# Altium integrated library TI_Logic_Little_Logic.IntLib: 1164 symbols (part 15 of 35)
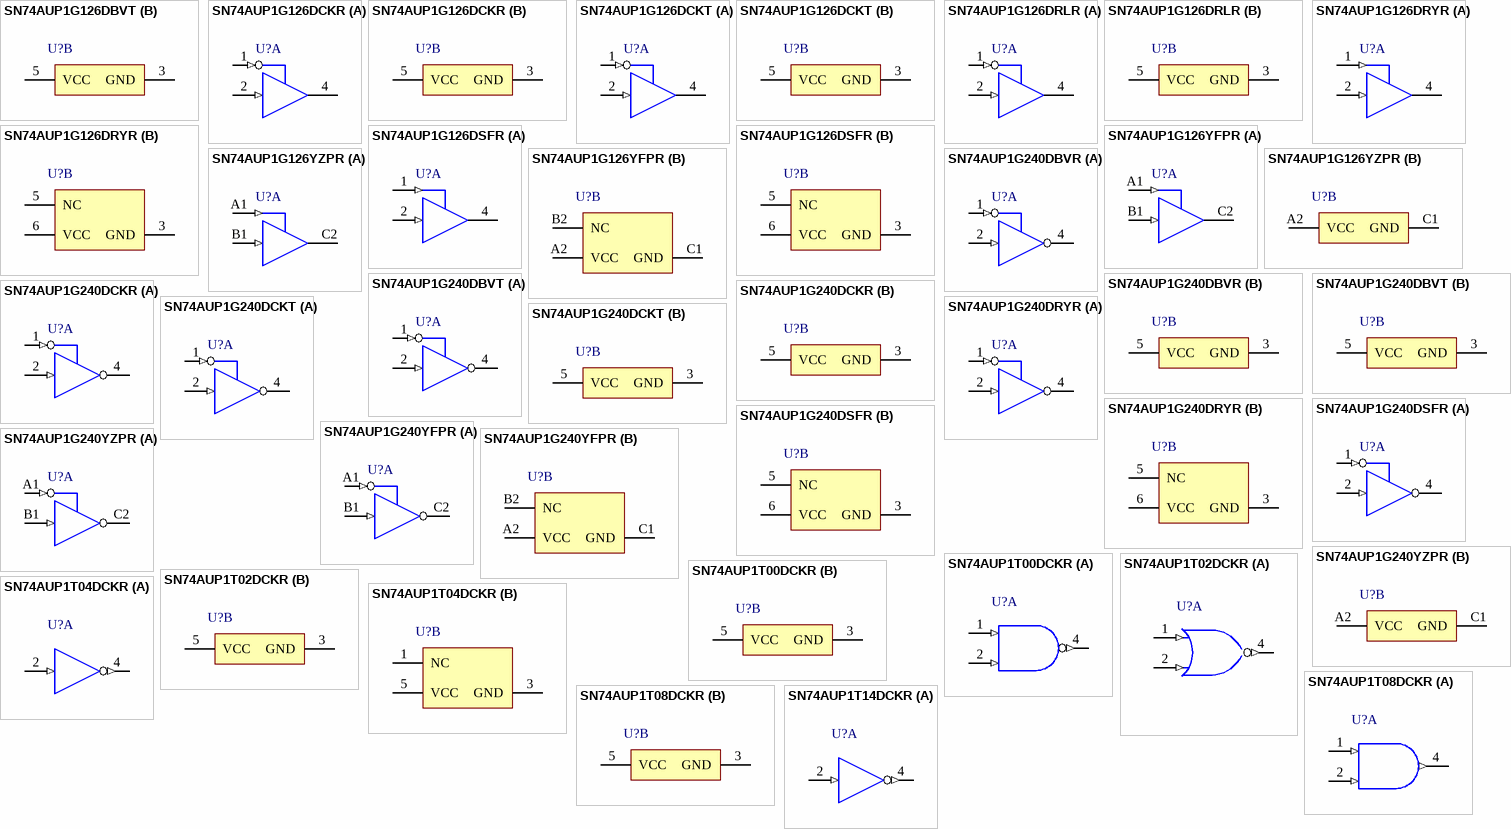
[diagram p74: symbols SN74AUP1G126DBVT to SN74AUP1T14DCKR]

## SN74AUP1T08DCKR
designator U?
Low Power, 1.8/2.5/3.3-V Input, 3.3-V CMOS Output, 2-Input Positive-AND Gate, DCK0005A, LARGE T&R; Generic Part Number: SN74AUP1T08; Manufacturer: Texas Instruments; PartNumber: SN74AUP1T08DCKR; VCC(Min)(V): 0.8; VCC(Max)(V): 3.6; Logic: True; ICC @ Nom Voltage(Max)(mA): 0.0009; Bits(#): 1; F @ Nom Voltage(Max)(Mhz): 190; Rating: Catalog; Technology Family: AUP1T; Voltage(Nom)(V): 1.8,2.5,3.3; Schmitt Trigger: No; Output Drive (IOL/IOH)(Max)(mA): 4/-4; Sub-Family: Single Supply Translator; tpd @ Nom Voltage(Max)(ns): 9.8,8.5,7.8; DatasheetVersion: SCES801; PackageReference: DCK0005A; Supplier 1: Mouser; Supplier Part Number 1: 595-SN74AUP1T08DCKR; Supplier 2: Digi-Key; Supplier Part Number 2: 296-27391-2-ND; Supplier 3: Digi-Key; Supplier Part Number 3: 296-27391-1-ND; Supplier 4: Digi-Key; Supplier Part Number 4: 296-27391-6-ND; Output Type: CMOS; Input Type: CMOS; Operating Temperature Range(C): -40 to 85; 3-State Output: No; ComponentLink1Description: Manufacturer URL; ComponentLink1URL: http://www.ti.com/; ComponentLink2Description: Datasheet; ComponentLink2URL: http://www.ti.com/lit/ds/symlink/sn74aup1t08.pdf
footprint DCK0005A_N (SOT23, 5-Leads, Body 2.15x1.4mm, Pitch 0.65mm, IPC Medium Density)
footprint DCK0005A_M (SOT23, 5-Leads, Body 2.15x1.4mm, Pitch 0.65mm, IPC Low Density)
footprint DCK0005A_L (SOT23, 5-Leads, Body 2.15x1.4mm, Pitch 0.65mm, IPC High Density)
part A pins: 1 A (in) "Input A", 2 B (in) "Input B", 4 Y (out) "Output Y"
part B pins: 3 GND (power) "Ground Pin", 5 VCC (power) "Power Pin"

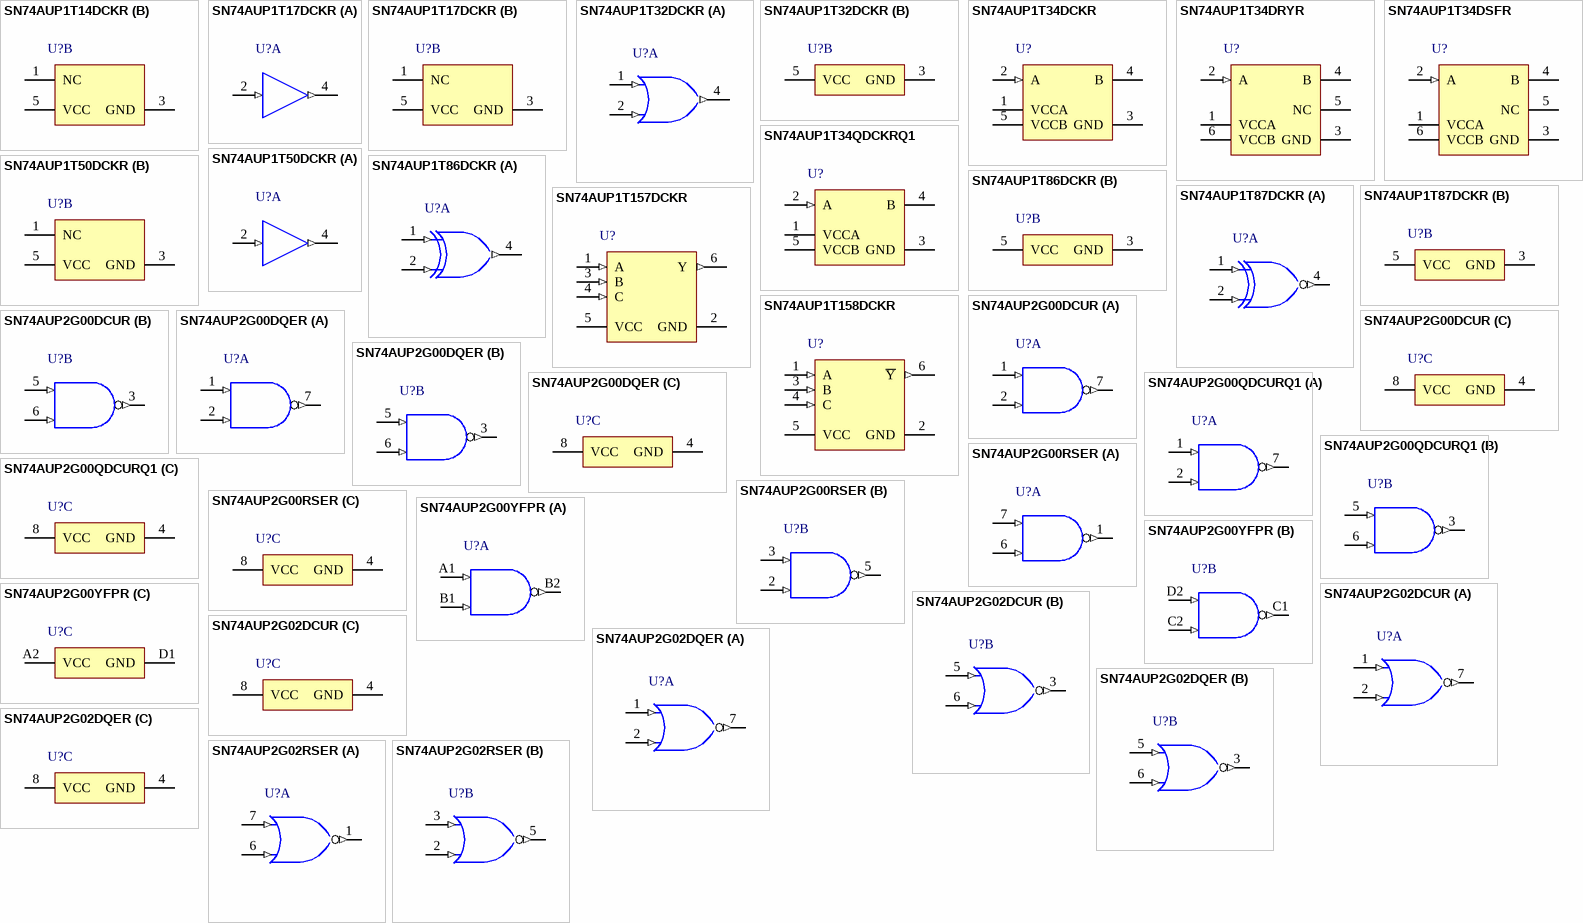
[diagram p23: symbols SN74AUP1T14DCKR to SN74AUP2G02RSER]

## SN74AUP1T14DCKR
designator U?
Low Power, 1.8/2.5/3.3-V In, 3.3-V CMOS Out Single Schmitt-Trigger Inverter Gate, DCK0005A, LARGE T&R; Generic Part Number: SN74AUP1T14; Manufacturer: Texas Instruments; PartNumber: SN74AUP1T14DCKR; VCC(Min)(V): 0.8; VCC(Max)(V): 3.6; Logic: Inverting; ICC @ Nom Voltage(Max)(mA): 0.0009; Bits(#): 1; F @ Nom Voltage(Max)(Mhz): 190; Rating: Catalog; Technology Family: AUP1T; Voltage(Nom)(V): 1.8,2.5,3.3; Schmitt Trigger: Yes; Output Drive (IOL/IOH)(Max)(mA): 4/-4; Sub-Family: Single Supply Translator; 3-State Output: No; tpd @ Nom Voltage(Max)(ns): 9.8,8.5,7.8; DatasheetVersion: SCES802; PackageReference: DCK0005A; Supplier 1: Mouser; Supplier Part Number 1: 595-SN74AUP1T14DCKR; Supplier 2: Digi-Key; Supplier Part Number 2: 296-27392-2-ND; Supplier 3: Digi-Key; Supplier Part Number 3: 296-27392-1-ND; Supplier 4: Digi-Key; Supplier Part Number 4: 296-27392-6-ND; Output Type: CMOS; Input Type: CMOS; Operating Temperature Range(C): -40 to 85; ComponentLink1Description: Manufacturer URL; ComponentLink1URL: http://www.ti.com/; ComponentLink2Description: Datasheet; ComponentLink2URL: http://www.ti.com/lit/ds/symlink/sn74aup1t14.pdf
footprint DCK0005A_N (SOT23, 5-Leads, Body 2.15x1.4mm, Pitch 0.65mm, IPC Medium Density)
footprint DCK0005A_M (SOT23, 5-Leads, Body 2.15x1.4mm, Pitch 0.65mm, IPC Low Density)
footprint DCK0005A_L (SOT23, 5-Leads, Body 2.15x1.4mm, Pitch 0.65mm, IPC High Density)
part A pins: 2 A (in) "Input A", 4 Y (out) "Output Y"
part B pins: 1 NC "Ground", 3 GND (power) "Ground Pin", 5 VCC (power) "Power Pin"

## SN74AUP1T17DCKR
designator U?
Low Power, 1.8/2.5/3.3-V In, 3.3-V CMOS Out, Single Schmitt-Trigger Buffer Gate, DCK0005A, LARGE T&R; Generic Part Number: SN74AUP1T17; Manufacturer: Texas Instruments; PartNumber: SN74AUP1T17DCKR; VCC(Min)(V): 0.8; VCC(Max)(V): 3.6; Logic: True; ICC @ Nom Voltage(Max)(mA): 0.0009; Bits(#): 1; F @ Nom Voltage(Max)(Mhz): 190; Rating: Catalog; Technology Family: AUP1T; Voltage(Nom)(V): 1.8,2.5,3.3; Schmitt Trigger: Yes; Output Drive (IOL/IOH)(Max)(mA): 4/-4; Sub-Family: Single Supply Translator; 3-State Output: No; tpd @ Nom Voltage(Max)(ns): 9.8,8.5,7.8; DatasheetVersion: SCES803; PackageReference: DCK0005A; Supplier 1: Mouser; Supplier Part Number 1: 595-SN74AUP1T17DCKR; Supplier 2: Digi-Key; Supplier Part Number 2: 296-27395-2-ND; Supplier 3: Digi-Key; Supplier Part Number 3: 296-27395-1-ND; Supplier 4: Digi-Key; Supplier Part Number 4: 296-27395-6-ND; Output Type: CMOS; Input Type: CMOS; Operating Temperature Range(C): -40 to 85; ComponentLink1Description: Manufacturer URL; ComponentLink1URL: http://www.ti.com/; ComponentLink2Description: Datasheet; ComponentLink2URL: http://www.ti.com/lit/ds/symlink/sn74aup1t17.pdf
footprint DCK0005A_N (SOT23, 5-Leads, Body 2.15x1.4mm, Pitch 0.65mm, IPC Medium Density)
footprint DCK0005A_M (SOT23, 5-Leads, Body 2.15x1.4mm, Pitch 0.65mm, IPC Low Density)
footprint DCK0005A_L (SOT23, 5-Leads, Body 2.15x1.4mm, Pitch 0.65mm, IPC High Density)
part A pins: 2 A (in) "Input", 4 Y (out) "Output"
part B pins: 1 NC "Ground", 3 GND (power) "Ground Pin", 5 VCC (power) "Power Pin"

## SN74AUP1T32DCKR
designator U?
Low Power, 1.8/2.5/3.3-V Input, 3.3-V CMOS Output, 2-Input Positive-OR Gate, DCK0005A, LARGE T&R; Generic Part Number: SN74AUP1T32; Manufacturer: Texas Instruments; PartNumber: SN74AUP1T32DCKR; VCC(Min)(V): 0.8; VCC(Max)(V): 3.6; Logic: True; ICC @ Nom Voltage(Max)(mA): 0.0009; Bits(#): 1; F @ Nom Voltage(Max)(Mhz): 190; Rating: Catalog; Technology Family: AUP1T; Voltage(Nom)(V): 1.8,2.5,3.3; Schmitt Trigger: No; Output Drive (IOL/IOH)(Max)(mA): 4/-4; Sub-Family: Single Supply Translator; tpd @ Nom Voltage(Max)(ns): 9.8,8.5,7.8; DatasheetVersion: SCES804; PackageReference: DCK0005A; Supplier 1: Mouser; Supplier Part Number 1: 595-SN74AUP1T32DCKR; Supplier 2: Digi-Key; Supplier Part Number 2: 296-27396-2-ND; Supplier 3: Digi-Key; Supplier Part Number 3: 296-27396-1-ND; Supplier 4: Digi-Key; Supplier Part Number 4: 296-27396-6-ND; Output Type: CMOS; Input Type: CMOS; Operating Temperature Range(C): -40 to 85; 3-State Output: No; ComponentLink1Description: Manufacturer URL; ComponentLink1URL: http://www.ti.com/; ComponentLink2Description: Datasheet; ComponentLink2URL: http://www.ti.com/lit/ds/symlink/sn74aup1t32.pdf
footprint DCK0005A_N (SOT23, 5-Leads, Body 2.15x1.4mm, Pitch 0.65mm, IPC Medium Density)
footprint DCK0005A_M (SOT23, 5-Leads, Body 2.15x1.4mm, Pitch 0.65mm, IPC Low Density)
footprint DCK0005A_L (SOT23, 5-Leads, Body 2.15x1.4mm, Pitch 0.65mm, IPC High Density)
part A pins: 1 A (in) "Input A", 2 B (in) "Input B", 4 Y (out) "Output Y"
part B pins: 3 GND (power) "Ground Pin", 5 VCC (power) "Power Pin"

## SN74AUP1T34DCKR
designator U?
1-Bit Unidirectional Voltage-Level Translator, DCK0005A, LARGE T&R; Generic Part Number: SN74AUP1T34; Manufacturer: Texas Instruments; PartNumber: SN74AUP1T34DCKR; VCC(Min)(V): 0.8; VCC(Max)(V): 3.6; Output Type: CMOS; Logic: True; ICC @ Nom Voltage(Max)(mA): 0.0009; Bits(#): 1; F @ Nom Voltage(Max)(Mhz): 190; Rating: Catalog; Technology Family: AUP1T; Voltage(Nom)(V): 1.8,2.5,3.3; Schmitt Trigger: No; Output Drive (IOL/IOH)(Max)(mA): 4/-4; Sub-Family: Dual Supply Translator; tpd @ Nom Voltage(Max)(ns): 5.48,4.72,4.28; DatasheetVersion: SCES841C; PackageReference: DCK0005A; Supplier 1: Mouser; Supplier Part Number 1: 595-SN74AUP1T34DCKR; Supplier 2: Digi-Key; Supplier Part Number 2: 296-34900-2-ND; Supplier 3: Digi-Key; Supplier Part Number 3: 296-34900-1-ND; Supplier 4: Digi-Key; Supplier Part Number 4: 296-34900-6-ND; Input Type: CMOS; Operating Temperature Range(C): -40 to 85; 3-State Output: No; ComponentLink1Description: Manufacturer URL; ComponentLink1URL: http://www.ti.com/; ComponentLink2Description: Datasheet; ComponentLink2URL: http://www.ti.com/lit/ds/symlink/sn74aup1t34.pdf
footprint DCK0005A_N (SOT23, 5-Leads, Body 2.15x1.4mm, Pitch 0.65mm, IPC Medium Density)
footprint DCK0005A_M (SOT23, 5-Leads, Body 2.15x1.4mm, Pitch 0.65mm, IPC Low Density)
footprint DCK0005A_L (SOT23, 5-Leads, Body 2.15x1.4mm, Pitch 0.65mm, IPC High Density)
pins: 1 VCCA (power) "Input Port DC Power Supply", 2 A (in) "Input Port", 3 GND (power) "Ground", 4 B (hiz) "Output Port", 5 VCCB (power) "Output Port DC Power Supply"

## SN74AUP1T34DRYR
designator U?
1-Bit Unidirectional Voltage-Level Translator, DRY0006A, LARGE T&R; Generic Part Number: SN74AUP1T34; Manufacturer: Texas Instruments; PartNumber: SN74AUP1T34DRYR; VCC(Min)(V): 0.8; VCC(Max)(V): 3.6; Output Type: CMOS; Logic: True; ICC @ Nom Voltage(Max)(mA): 0.0009; Bits(#): 1; F @ Nom Voltage(Max)(Mhz): 190; Rating: Catalog; Technology Family: AUP1T; Voltage(Nom)(V): 1.8,2.5,3.3; Schmitt Trigger: No; Output Drive (IOL/IOH)(Max)(mA): 4/-4; Sub-Family: Dual Supply Translator; tpd @ Nom Voltage(Max)(ns): 5.48,4.72,4.28; DatasheetVersion: SCES841C; PackageReference: DRY0006A; Supplier 1: Mouser; Supplier Part Number 1: 595-SN74AUP1T34DRYR; Supplier 2: Digi-Key; Supplier Part Number 2: 296-36718-2-ND; Supplier 3: Digi-Key; Supplier Part Number 3: 296-36718-1-ND; Supplier 4: Digi-Key; Supplier Part Number 4: 296-36718-6-ND; Input Type: CMOS; Operating Temperature Range(C): -40 to 85; 3-State Output: No; ComponentLink1Description: Manufacturer URL; ComponentLink1URL: http://www.ti.com/; ComponentLink2Description: Datasheet; ComponentLink2URL: http://www.ti.com/lit/ds/symlink/sn74aup1t34.pdf
footprint DRY0006A_V (SON, 6-Leads, Body 1.45x1mm, Pitch 0.5mm)
pins: 1 VCCA (power) "Input Port DC Power Supply", 2 A (in) "Input Port", 3 GND (power) "Ground", 4 B (hiz) "Output Port", 5 NC, 6 VCCB (power) "Output Port DC Power Supply"

## SN74AUP1T34DSFR
designator U?
1-Bit Unidirectional Voltage-Level Translator, DSF0006A, LARGE T&R; Generic Part Number: SN74AUP1T34; Manufacturer: Texas Instruments; PartNumber: SN74AUP1T34DSFR; VCC(Min)(V): 0.8; VCC(Max)(V): 3.6; Output Type: CMOS; Logic: True; ICC @ Nom Voltage(Max)(mA): 0.0009; Bits(#): 1; F @ Nom Voltage(Max)(Mhz): 190; Rating: Catalog; Technology Family: AUP1T; Voltage(Nom)(V): 1.8,2.5,3.3; Schmitt Trigger: No; Output Drive (IOL/IOH)(Max)(mA): 4/-4; Sub-Family: Dual Supply Translator; tpd @ Nom Voltage(Max)(ns): 5.48,4.72,4.28; DatasheetVersion: SCES841C; PackageReference: DSF0006A; Supplier 1: Mouser; Supplier Part Number 1: 595-SN74AUP1T34DSFR; Supplier 2: Digi-Key; Supplier Part Number 2: 296-36719-2-ND; Supplier 3: Digi-Key; Supplier Part Number 3: 296-36719-1-ND; Supplier 4: Digi-Key; Supplier Part Number 4: 296-36719-6-ND; Input Type: CMOS; Operating Temperature Range(C): -40 to 85; 3-State Output: No; ComponentLink1Description: Manufacturer URL; ComponentLink1URL: http://www.ti.com/; ComponentLink2Description: Datasheet; ComponentLink2URL: http://www.ti.com/lit/ds/symlink/sn74aup1t34.pdf
footprint DSF0006A_V (SON, 6-Leads, Body 1x1mm, Pitch 0.35mm, TI Recommend)
pins: 1 VCCA (power) "Input Port DC Power Supply", 2 A (in) "Input Port", 3 GND (power) "Ground", 4 B (hiz) "Output Port", 5 NC, 6 VCCB (power) "Output Port DC Power Supply"

## SN74AUP1T34QDCKRQ1
designator U?
1-Bit Unidirectional Voltage-Level Translator, SN74AUP1T34-Q1, DCK0005A, LARGE T&R; Manufacturer: Texas Instruments; PartNumber: SN74AUP1T34QDCKRQ1; VCC(Min)(V): 0.8; VCC(Max)(V): 3.6; Output Type: CMOS; Logic: True; ICC @ Nom Voltage(Max)(mA): 0.0009; Bits(#): 1; F @ Nom Voltage(Max)(Mhz): 190; Rating: Automotive; Technology Family: AUP1T; Voltage(Nom)(V): 1.8,2.5,3.3; Schmitt Trigger: No; Output Drive (IOL/IOH)(Max)(mA): 4/-4; Sub-Family: Dual Supply Translator; tpd @ Nom Voltage(Max)(ns): 6.92,4.95,4.35; DatasheetVersion: SCES852; PackageReference: DCK0005A; Supplier 1: Mouser; Supplier Part Number 1: 595-74AUP1T34QDCKRQ1; Supplier 2: Digi-Key; Supplier Part Number 2: 296-40540-2-ND; Supplier 3: Digi-Key; Supplier Part Number 3: 296-40540-1-ND; Supplier 4: Digi-Key; Supplier Part Number 4: 296-40540-6-ND; Generic Part Number: SN74AUP1T34-Q1; Input Type: CMOS; Operating Temperature Range(C): -40 to 125; 3-State Output: No; ComponentLink1Description: Manufacturer URL; ComponentLink1URL: http://www.ti.com/; ComponentLink2Description: Datasheet; ComponentLink2URL: http://www.ti.com/lit/ds/symlink/sn74aup1t34-q1.pdf
footprint DCK0005A_N (SOT23, 5-Leads, Body 2.15x1.4mm, Pitch 0.65mm, IPC Medium Density)
footprint DCK0005A_M (SOT23, 5-Leads, Body 2.15x1.4mm, Pitch 0.65mm, IPC Low Density)
footprint DCK0005A_L (SOT23, 5-Leads, Body 2.15x1.4mm, Pitch 0.65mm, IPC High Density)
pins: 1 VCCA (power) "Input Port DC Power Supply", 2 A (in) "Input Port", 3 GND (power) "Ground", 4 B (hiz) "Output Port", 5 VCCB (power) "Output Port DC Power Supply"

## SN74AUP1T50DCKR
designator U?
Low Power, 1.8/2.5/3.3-V In, 3.3-V CMOS Out, SN74AUP1T50, DCK0005A, LARGE T&R; Manufacturer: Texas Instruments; PartNumber: SN74AUP1T50DCKR; VCC(Min)(V): 0.8; VCC(Max)(V): 3.6; Logic: True; ICC @ Nom Voltage(Max)(mA): 0.0009; Bits(#): 1; F @ Nom Voltage(Max)(Mhz): 190; Rating: Catalog; Technology Family: AUP1T; Voltage(Nom)(V): 1.8,2.5,3.3; Schmitt Trigger: No; Output Drive (IOL/IOH)(Max)(mA): 4/-4; Sub-Family: Single Supply Translator; tpd @ Nom Voltage(Max)(ns): 9.8,8.5,7.8; DatasheetVersion: SCES844A; PackageReference: DCK0005A; Supplier 1: Mouser; Supplier Part Number 1: 595-SN74AUP1T50DCKR; Supplier 2: Digi-Key; Supplier Part Number 2: 296-40541-2-ND; Supplier 3: Digi-Key; Supplier Part Number 3: 296-40541-1-ND; Supplier 4: Digi-Key; Supplier Part Number 4: 296-40541-6-ND; Generic Part Number: SN74AUP1T50; Output Type: CMOS; Input Type: CMOS; Operating Temperature Range(C): -40 to 85; 3-State Output: No; ComponentLink1Description: Manufacturer URL; ComponentLink1URL: http://www.ti.com/; ComponentLink2Description: Datasheet; ComponentLink2URL: http://www.ti.com/lit/ds/symlink/sn74aup1t50.pdf
footprint DCK0005A_N (SOT23, 5-Leads, Body 2.15x1.4mm, Pitch 0.65mm, IPC Medium Density)
footprint DCK0005A_M (SOT23, 5-Leads, Body 2.15x1.4mm, Pitch 0.65mm, IPC Low Density)
footprint DCK0005A_L (SOT23, 5-Leads, Body 2.15x1.4mm, Pitch 0.65mm, IPC High Density)
part A pins: 2 A (in) "Input", 4 Y (out) "Output"
part B pins: 1 NC "Ground", 3 GND (power) "Ground Pin", 5 VCC (power) "Power Pin"

## SN74AUP1T86DCKR
designator U?
Low Power, 1.8/2.5/3.3-V Input, 3.3-V CMOS Output, 2-Input Exclusive-OR Gate, DCK0005A, LARGE T&R; Generic Part Number: SN74AUP1T86; Manufacturer: Texas Instruments; PartNumber: SN74AUP1T86DCKR; VCC(Min)(V): 0.8; VCC(Max)(V): 3.6; Logic: True; ICC @ Nom Voltage(Max)(mA): 0.0009; Bits(#): 1; F @ Nom Voltage(Max)(Mhz): 190; Rating: Catalog; Technology Family: AUP1T; Voltage(Nom)(V): 1.8,2.5,3.3; Schmitt Trigger: No; Output Drive (IOL/IOH)(Max)(mA): 4/-4; Sub-Family: Single Supply Translator; tpd @ Nom Voltage(Max)(ns): 9.8,8.5,7.8; DatasheetVersion: SCES805; PackageReference: DCK0005A; Supplier 1: Mouser; Supplier Part Number 1: 595-SN74AUP1T86DCKR; Supplier 2: Digi-Key; Supplier Part Number 2: 296-27397-2-ND; Supplier 3: Digi-Key; Supplier Part Number 3: 296-27397-1-ND; Supplier 4: Digi-Key; Supplier Part Number 4: 296-27397-6-ND; Output Type: CMOS; Input Type: CMOS; Operating Temperature Range(C): -40 to 85; 3-State Output: No; ComponentLink1Description: Manufacturer URL; ComponentLink1URL: http://www.ti.com/; ComponentLink2Description: Datasheet; ComponentLink2URL: http://www.ti.com/lit/ds/symlink/sn74aup1t86.pdf
footprint DCK0005A_N (SOT23, 5-Leads, Body 2.15x1.4mm, Pitch 0.65mm, IPC Medium Density)
footprint DCK0005A_M (SOT23, 5-Leads, Body 2.15x1.4mm, Pitch 0.65mm, IPC Low Density)
footprint DCK0005A_L (SOT23, 5-Leads, Body 2.15x1.4mm, Pitch 0.65mm, IPC High Density)
part A pins: 1 A (in) "Input A", 2 B (in) "Input B", 4 Y (out) "Output Y"
part B pins: 3 GND (power) "Ground Pin", 5 VCC (power) "Power Pin"

## SN74AUP1T87DCKR
designator U?
Low Power, 1.8/2.5/3.3-V In, 3.3-V CMOS Out, 2-Input Positive Exclusive-NOR Gate, DCK0005A, LARGE T&R; Generic Part Number: SN74AUP1T87; Manufacturer: Texas Instruments; PartNumber: SN74AUP1T87DCKR; VCC(Min)(V): 0.8; VCC(Max)(V): 3.6; Logic: True; ICC @ Nom Voltage(Max)(mA): 0.0009; Bits(#): 1; F @ Nom Voltage(Max)(Mhz): 190; Rating: Catalog; Technology Family: AUP1T; Voltage(Nom)(V): 1.8,2.5,3.3; Schmitt Trigger: No; Output Drive (IOL/IOH)(Max)(mA): 4/-4; Sub-Family: Single Supply Translator; tpd @ Nom Voltage(Max)(ns): 9.8,8.5,7.8; DatasheetVersion: SCES806; PackageReference: DCK0005A; Supplier 1: Mouser; Supplier Part Number 1: 595-SN74AUP1T87DCKR; Supplier 2: Digi-Key; Supplier Part Number 2: 296-27398-2-ND; Supplier 3: Digi-Key; Supplier Part Number 3: 296-27398-1-ND; Supplier 4: Digi-Key; Supplier Part Number 4: 296-27398-6-ND; Output Type: CMOS; Input Type: CMOS; Operating Temperature Range(C): -40 to 85; 3-State Output: No; ComponentLink1Description: Manufacturer URL; ComponentLink1URL: http://www.ti.com/; ComponentLink2Description: Datasheet; ComponentLink2URL: http://www.ti.com/lit/ds/symlink/sn74aup1t87.pdf
footprint DCK0005A_N (SOT23, 5-Leads, Body 2.15x1.4mm, Pitch 0.65mm, IPC Medium Density)
footprint DCK0005A_M (SOT23, 5-Leads, Body 2.15x1.4mm, Pitch 0.65mm, IPC Low Density)
footprint DCK0005A_L (SOT23, 5-Leads, Body 2.15x1.4mm, Pitch 0.65mm, IPC High Density)
part A pins: 1 A (in), 2 B (in), 4 Y (out)
part B pins: 3 GND (power), 5 VCC (power)

## SN74AUP1T157DCKR
designator U?
Low Power, 1.8/2.5/3.3-V In, 3.3-V CMOS Out, Buffer Multiplexer (Noninverted), DCK0006A, LARGE T&R; Generic Part Number: SN74AUP1T157; Manufacturer: Texas Instruments; PartNumber: SN74AUP1T157DCKR; VCC(Min)(V): 0.8; VCC(Max)(V): 3.6; Logic: True; ICC @ Nom Voltage(Max)(mA): 0.0009; Bits(#): 1; F @ Nom Voltage(Max)(Mhz): 190; Rating: Catalog; Technology Family: AUP1T; Voltage(Nom)(V): 1.8,2.5,3.3; Schmitt Trigger: No; Output Drive (IOL/IOH)(Max)(mA): 4/-4; Sub-Family: Single Supply Translator; tpd @ Nom Voltage(Max)(ns): 9.8,8.5,7.8; DatasheetVersion: SCES807; PackageReference: DCK0006A; Supplier 1: Mouser; Supplier Part Number 1: 595-SN74AUP1T157DCKR; Supplier 2: Digi-Key; Supplier Part Number 2: 296-27393-2-ND; Supplier 3: Digi-Key; Supplier Part Number 3: 296-27393-1-ND; Supplier 4: Digi-Key; Supplier Part Number 4: 296-27393-6-ND; Output Type: CMOS; Input Type: CMOS; Operating Temperature Range(C): -40 to 85; 3-State Output: No; ComponentLink1Description: Manufacturer URL; ComponentLink1URL: http://www.ti.com/; ComponentLink2Description: Datasheet; ComponentLink2URL: http://www.ti.com/lit/ds/symlink/sn74aup1t157.pdf
footprint DCK0006A_N (SOT23, 6-Leads, Body 2.15x1.4mm, Pitch 0.65mm, IPC Medium Density)
footprint DCK0006A_M (SOT23, 6-Leads, Body 2.15x1.4mm, Pitch 0.65mm, IPC Low Density)
footprint DCK0006A_L (SOT23, 6-Leads, Body 2.15x1.4mm, Pitch 0.65mm, IPC High Density)
pins: 1 A (in), 2 GND (power), 3 B (in), 4 C (in), 5 VCC (power), 6 Y (out)

## SN74AUP1T158DCKR
designator U?
Low Power, 1.8/2.5/3.3-V In, 3.3-V CMOS Out, Buffer Multiplexer (Inverted), DCK0006A, LARGE T&R; Generic Part Number: SN74AUP1T158; Manufacturer: Texas Instruments; PartNumber: SN74AUP1T158DCKR; VCC(Min)(V): 0.8; VCC(Max)(V): 3.6; Logic: Inverting; ICC @ Nom Voltage(Max)(mA): 0.0009; Bits(#): 1; F @ Nom Voltage(Max)(Mhz): 190; Rating: Catalog; Technology Family: AUP1T; Voltage(Nom)(V): 1.8,2.5,3.3; Schmitt Trigger: No; Output Drive (IOL/IOH)(Max)(mA): 4/-4; Sub-Family: Single Supply Translator; tpd @ Nom Voltage(Max)(ns): 9.8,8.5,7.8; DatasheetVersion: SCES808; PackageReference: DCK0006A; Supplier 1: Mouser; Supplier Part Number 1: 595-SN74AUP1T158DCKR; Supplier 2: Digi-Key; Supplier Part Number 2: 296-27394-2-ND; Supplier 3: Digi-Key; Supplier Part Number 3: 296-27394-1-ND; Supplier 4: Digi-Key; Supplier Part Number 4: 296-27394-6-ND; Output Type: CMOS; Input Type: CMOS; Operating Temperature Range(C): -40 to 85; 3-State Output: No; ComponentLink1Description: Manufacturer URL; ComponentLink1URL: http://www.ti.com/; ComponentLink2Description: Datasheet; ComponentLink2URL: http://www.ti.com/lit/ds/symlink/sn74aup1t158.pdf
footprint DCK0006A_N (SOT23, 6-Leads, Body 2.15x1.4mm, Pitch 0.65mm, IPC Medium Density)
footprint DCK0006A_M (SOT23, 6-Leads, Body 2.15x1.4mm, Pitch 0.65mm, IPC Low Density)
footprint DCK0006A_L (SOT23, 6-Leads, Body 2.15x1.4mm, Pitch 0.65mm, IPC High Density)
pins: 1 A (in), 2 GND (power), 3 B (in), 4 C (in), 5 VCC (power), 6 ~{Y} (out)

## SN74AUP2G00DCUR
designator U?
Low-Power Dual 2-Input Positive-NAND Gate, DCU0008A, LARGE T&R; Generic Part Number: SN74AUP2G00; Manufacturer: Texas Instruments; PartNumber: SN74AUP2G00DCUR; VCC(Min)(V): 0.8; VCC(Max)(V): 3.6; Output Type: CMOS; ICC @ Nom Voltage(Max)(mA): 0.0009; Bits(#): 2; F @ Nom Voltage(Max)(Mhz): 100; Rating: Catalog; Technology Family: AUP; Voltage(Nom)(V): 0.8,1.2,1.5,1.8,2.5,3.3; Schmitt Trigger: No; Output Drive (IOL/IOH)(Max)(mA): 20/-20; tpd @ Nom Voltage(Max)(ns): 31.8,26.3,16.6,12.9,8.8,6.7; Logic: True; Gate Type: NAND; DatasheetVersion: SCES752C; PackageReference: DCU0008A; Supplier 1: Mouser; Supplier Part Number 1: 595-SN74AUP2G00DCUR; Supplier 2: Digi-Key; Supplier Part Number 2: 296-36884-2-ND; Supplier 3: Digi-Key; Supplier Part Number 3: 296-36884-1-ND; Supplier 4: Digi-Key; Supplier Part Number 4: 296-36884-6-ND; Input Type: CMOS; Operating Temperature Range(C): -40 to 85; Sub-Family: NAND Gate; 3-State Output: No; ComponentLink1Description: Manufacturer URL; ComponentLink1URL: http://www.ti.com/; ComponentLink2Description: Datasheet; ComponentLink2URL: http://www.ti.com/lit/ds/symlink/sn74aup2g00.pdf
footprint DCU0008A_N (SOP, 8-Leads, Body 2.4x2.1mm, Pitch 0.5mm, IPC Medium Density)
footprint DCU0008A_M (SOP, 8-Leads, Body 2.4x2.1mm, Pitch 0.5mm, IPC Low Density)
footprint DCU0008A_L (SOP, 8-Leads, Body 2.4x2.1mm, Pitch 0.5mm, IPC High Density)
part A pins: 1 1A (in) "A input for gate 1", 2 1B (in) "B input for gate 1", 7 1Y (out) "Output for gate 1"
part B pins: 3 2Y (out) "Output for gate 2", 5 2A (in) "A input for gate 2", 6 2B (in) "B input for gate 2"
part C pins: 4 GND (power) "Ground", 8 VCC (power) "Power input."

## SN74AUP2G00DQER
designator U?
Low-Power Dual 2-Input Positive-NAND Gate, DQE0008A, LARGE T&R; Generic Part Number: SN74AUP2G00; Manufacturer: Texas Instruments; PartNumber: SN74AUP2G00DQER; VCC(Min)(V): 0.8; VCC(Max)(V): 3.6; Output Type: CMOS; ICC @ Nom Voltage(Max)(mA): 0.0009; Bits(#): 2; F @ Nom Voltage(Max)(Mhz): 100; Rating: Catalog; Technology Family: AUP; Voltage(Nom)(V): 0.8,1.2,1.5,1.8,2.5,3.3; Schmitt Trigger: No; Output Drive (IOL/IOH)(Max)(mA): 20/-20; tpd @ Nom Voltage(Max)(ns): 31.8,26.3,16.6,12.9,8.8,6.7; Logic: True; Gate Type: NAND; DatasheetVersion: SCES752C; PackageReference: DQE0008A; Supplier 1: Mouser; Supplier Part Number 1: 595-SN74AUP2G00DQER; Supplier 2: Digi-Key; Supplier Part Number 2: 296-25618-2-ND; Supplier 3: Digi-Key; Supplier Part Number 3: 296-25618-1-ND; Supplier 4: Digi-Key; Supplier Part Number 4: 296-25618-6-ND; Input Type: CMOS; Operating Temperature Range(C): -40 to 85; Sub-Family: NAND Gate; 3-State Output: No; ComponentLink1Description: Manufacturer URL; ComponentLink1URL: http://www.ti.com/; ComponentLink2Description: Datasheet; ComponentLink2URL: http://www.ti.com/lit/ds/symlink/sn74aup2g00.pdf
footprint DQE0008A_V (SON, 8-Leads, Body 1.4x1mm, Pitch 0.35mm, TI Recommend)
part A pins: 1 1A (in) "A input for gate 1", 2 1B (in) "B input for gate 1", 7 1Y (out) "Output for gate 1"
part B pins: 3 2Y (out) "Output for gate 2", 5 2A (in) "A input for gate 2", 6 2B (in) "B input for gate 2"
part C pins: 4 GND (power) "Ground", 8 VCC (power) "Power input."

## SN74AUP2G00QDCURQ1
designator U?
Automotive Catalog Low-Power Dual 2-Input Positive-NAND Gate, DCU0008A, LARGE T&R; Generic Part Number: SN74AUP2G00-Q1; Manufacturer: Texas Instruments; PartNumber: SN74AUP2G00QDCURQ1; VCC(Min)(V): 0.8; VCC(Max)(V): 3.6; Output Type: CMOS; ICC @ Nom Voltage(Max)(mA): 0.0009; Bits(#): 2; F @ Nom Voltage(Max)(Mhz): 100; Technology Family: AUP; Voltage(Nom)(V): 0.8,1.2,1.5,1.8,2.5,3.3; Schmitt Trigger: No; Output Drive (IOL/IOH)(Max)(mA): 20/-20; tpd @ Nom Voltage(Max)(ns): 31.8,26.3,16.6,12.9,8.8,7; Logic: True; Gate Type: NAND; DatasheetVersion: SCES812; PackageReference: DCU0008A; Supplier 1: Mouser; Supplier Part Number 1: 595-74AUP2G00QDCURQ1; Supplier 2: Digi-Key; Supplier Part Number 2: 296-36720-2-ND; Supplier 3: Digi-Key; Supplier Part Number 3: 296-36720-1-ND; Supplier 4: Digi-Key; Supplier Part Number 4: 296-36720-6-ND; Input Type: CMOS; Operating Temperature Range(C): -40 to 125; Rating: Automotive; Sub-Family: NAND Gate; 3-State Output: No; ComponentLink1Description: Manufacturer URL; ComponentLink1URL: http://www.ti.com/; ComponentLink2Description: Datasheet; ComponentLink2URL: http://www.ti.com/lit/ds/symlink/sn74aup2g00-q1.pdf
footprint DCU0008A_N (SOP, 8-Leads, Body 2.4x2.1mm, Pitch 0.5mm, IPC Medium Density)
footprint DCU0008A_M (SOP, 8-Leads, Body 2.4x2.1mm, Pitch 0.5mm, IPC Low Density)
footprint DCU0008A_L (SOP, 8-Leads, Body 2.4x2.1mm, Pitch 0.5mm, IPC High Density)
part A pins: 1 1A (in) "A input for gate 1", 2 1B (in) "B input for gate 1", 7 1Y (out) "Output for gate 1"
part B pins: 3 2Y (out) "Output for gate 2", 5 2A (in) "A input for gate 2", 6 2B (in) "B input for gate 2"
part C pins: 4 GND (power) "Ground", 8 VCC (power) "Power input."

## SN74AUP2G00RSER
designator U?
Low-Power Dual 2-Input Positive-NAND Gate, RSE0008A, LARGE T&R; Generic Part Number: SN74AUP2G00; Manufacturer: Texas Instruments; PartNumber: SN74AUP2G00RSER; VCC(Min)(V): 0.8; VCC(Max)(V): 3.6; Output Type: CMOS; ICC @ Nom Voltage(Max)(mA): 0.0009; Bits(#): 2; F @ Nom Voltage(Max)(Mhz): 100; Rating: Catalog; Technology Family: AUP; Voltage(Nom)(V): 0.8,1.2,1.5,1.8,2.5,3.3; Schmitt Trigger: No; Output Drive (IOL/IOH)(Max)(mA): 20/-20; tpd @ Nom Voltage(Max)(ns): 31.8,26.3,16.6,12.9,8.8,6.7; Logic: True; Gate Type: NAND; DatasheetVersion: SCES752C; PackageReference: RSE0008A; Supplier 1: Mouser; Supplier Part Number 1: 595-SN74AUP2G00RSER; Supplier 2: Digi-Key; Supplier Part Number 2: 296-27284-2-ND; Supplier 3: Digi-Key; Supplier Part Number 3: 296-27284-1-ND; Supplier 4: Digi-Key; Supplier Part Number 4: 296-27284-6-ND; Input Type: CMOS; Operating Temperature Range(C): -40 to 85; Sub-Family: NAND Gate; 3-State Output: No; ComponentLink1Description: Manufacturer URL; ComponentLink1URL: http://www.ti.com/; ComponentLink2Description: Datasheet; ComponentLink2URL: http://www.ti.com/lit/ds/symlink/sn74aup2g00.pdf
footprint RSE0008A_V (QFN, 8-Leads, Body 1.5x1.5mm, Pitch 0.5mm, TI Recommend)
part A pins: 1 1Y (out), 6 1B (in), 7 1A (in)
part B pins: 2 2B (in), 3 2A (in), 5 2Y (out)
part C pins: 4 GND (power), 8 VCC (power)

## SN74AUP2G00YFPR
designator U?
Low-Power Dual 2-Input Positive-NAND Gate, YZP0008AAAA, LARGE T&R; Generic Part Number: SN74AUP2G00; Manufacturer: Texas Instruments; PartNumber: SN74AUP2G00YFPR; VCC(Min)(V): 0.8; VCC(Max)(V): 3.6; Output Type: CMOS; ICC @ Nom Voltage(Max)(mA): 0.0009; Bits(#): 2; F @ Nom Voltage(Max)(Mhz): 100; Rating: Catalog; Technology Family: AUP; Voltage(Nom)(V): 0.8,1.2,1.5,1.8,2.5,3.3; Schmitt Trigger: No; Output Drive (IOL/IOH)(Max)(mA): 20/-20; tpd @ Nom Voltage(Max)(ns): 31.8,26.3,16.6,12.9,8.8,6.7; Logic: True; Gate Type: NAND; DatasheetVersion: SCES752C; PackageReference: YZP0008AAAA; Supplier 1: Mouser; Supplier Part Number 1: 595-SN74AUP2G00YFPR; Supplier 2: Digi-Key; Supplier Part Number 2: 296-25202-2-ND; Supplier 3: Digi-Key; Supplier Part Number 3: 296-25202-1-ND; Supplier 4: Digi-Key; Supplier Part Number 4: 296-25202-6-ND; Input Type: CMOS; Operating Temperature Range(C): -40 to 85; Sub-Family: NAND Gate; 3-State Output: No; ComponentLink1Description: Manufacturer URL; ComponentLink1URL: http://www.ti.com/; ComponentLink2Description: Datasheet; ComponentLink2URL: http://www.ti.com/lit/ds/symlink/sn74aup2g00.pdf
footprint YZP0008AAAA (BGA, 8-Balls, Body 1.56x0.76mm, Pitch 0.4mm)
part A pins: A1 1A (in) "A input for gate 1", B1 1B (in) "B input for gate 1", B2 1Y (out) "Output for gate 1"
part B pins: C1 2Y (out) "Output for gate 2", C2 2B (in) "B input for gate 2", D2 2A (in) "A input for gate 2"
part C pins: A2 VCC (power) "Power input.", D1 GND (power) "Ground"

## SN74AUP2G02DCUR
designator U?
Low-Power Dual 2-Input Positive-NOR Gate, DCU0008A, LARGE T&R; Generic Part Number: SN74AUP2G02; Manufacturer: Texas Instruments; PartNumber: SN74AUP2G02DCUR; VCC(Min)(V): 0.8; VCC(Max)(V): 3.6; Output Type: CMOS; ICC @ Nom Voltage(Max)(mA): 0.0009; Bits(#): 2; F @ Nom Voltage(Max)(Mhz): 100; Rating: Catalog; Technology Family: AUP; Voltage(Nom)(V): 0.8,1.2,1.5,1.8,2.5,3.3; Schmitt Trigger: No; Output Drive (IOL/IOH)(Max)(mA): 20/-20; tpd @ Nom Voltage(Max)(ns): 32.8,20.9,14.2,11,7.6,6.2; Logic: True; Gate Type: NOR; DatasheetVersion: SCES753C; PackageReference: DCU0008A; Supplier 1: Mouser; Supplier Part Number 1: 595-SN74AUP2G02DCUR; Supplier 2: Digi-Key; Supplier Part Number 2: 296-36970-2-ND; Supplier 3: Digi-Key; Supplier Part Number 3: 296-36970-1-ND; Supplier 4: Digi-Key; Supplier Part Number 4: 296-36970-6-ND; Input Type: CMOS; Operating Temperature Range(C): -40 to 85; Sub-Family: NOR Gate; 3-State Output: No; ComponentLink1Description: Manufacturer URL; ComponentLink1URL: http://www.ti.com/; ComponentLink2Description: Datasheet; ComponentLink2URL: http://www.ti.com/lit/ds/symlink/sn74aup2g02.pdf
footprint DCU0008A_N (SOP, 8-Leads, Body 2.4x2.1mm, Pitch 0.5mm, IPC Medium Density)
footprint DCU0008A_M (SOP, 8-Leads, Body 2.4x2.1mm, Pitch 0.5mm, IPC Low Density)
footprint DCU0008A_L (SOP, 8-Leads, Body 2.4x2.1mm, Pitch 0.5mm, IPC High Density)
part A pins: 1 1A (in), 2 1B (in), 7 1Y (out)
part B pins: 3 2Y (out), 5 2A (in), 6 2B (in)
part C pins: 4 GND (power), 8 VCC (power)

## SN74AUP2G02DQER
designator U?
Low-Power Dual 2-Input Positive-NOR Gate, DQE0008A, LARGE T&R; Generic Part Number: SN74AUP2G02; Manufacturer: Texas Instruments; PartNumber: SN74AUP2G02DQER; VCC(Min)(V): 0.8; VCC(Max)(V): 3.6; Output Type: CMOS; ICC @ Nom Voltage(Max)(mA): 0.0009; Bits(#): 2; F @ Nom Voltage(Max)(Mhz): 100; Rating: Catalog; Technology Family: AUP; Voltage(Nom)(V): 0.8,1.2,1.5,1.8,2.5,3.3; Schmitt Trigger: No; Output Drive (IOL/IOH)(Max)(mA): 20/-20; tpd @ Nom Voltage(Max)(ns): 32.8,20.9,14.2,11,7.6,6.2; Logic: True; Gate Type: NOR; DatasheetVersion: SCES753C; PackageReference: DQE0008A; Supplier 1: Mouser; Supplier Part Number 1: 595-SN74AUP2G02DQER; Supplier 2: Digi-Key; Supplier Part Number 2: 296-25870-2-ND; Supplier 3: Digi-Key; Supplier Part Number 3: 296-25870-1-ND; Supplier 4: Digi-Key; Supplier Part Number 4: 296-25870-6-ND; Input Type: CMOS; Operating Temperature Range(C): -40 to 85; Sub-Family: NOR Gate; 3-State Output: No; ComponentLink1Description: Manufacturer URL; ComponentLink1URL: http://www.ti.com/; ComponentLink2Description: Datasheet; ComponentLink2URL: http://www.ti.com/lit/ds/symlink/sn74aup2g02.pdf
footprint DQE0008A_V (SON, 8-Leads, Body 1.4x1mm, Pitch 0.35mm, TI Recommend)
part A pins: 1 1A (in), 2 1B (in), 7 1Y (out)
part B pins: 3 2Y (out), 5 2A (in), 6 2B (in)
part C pins: 4 GND (power), 8 VCC (power)

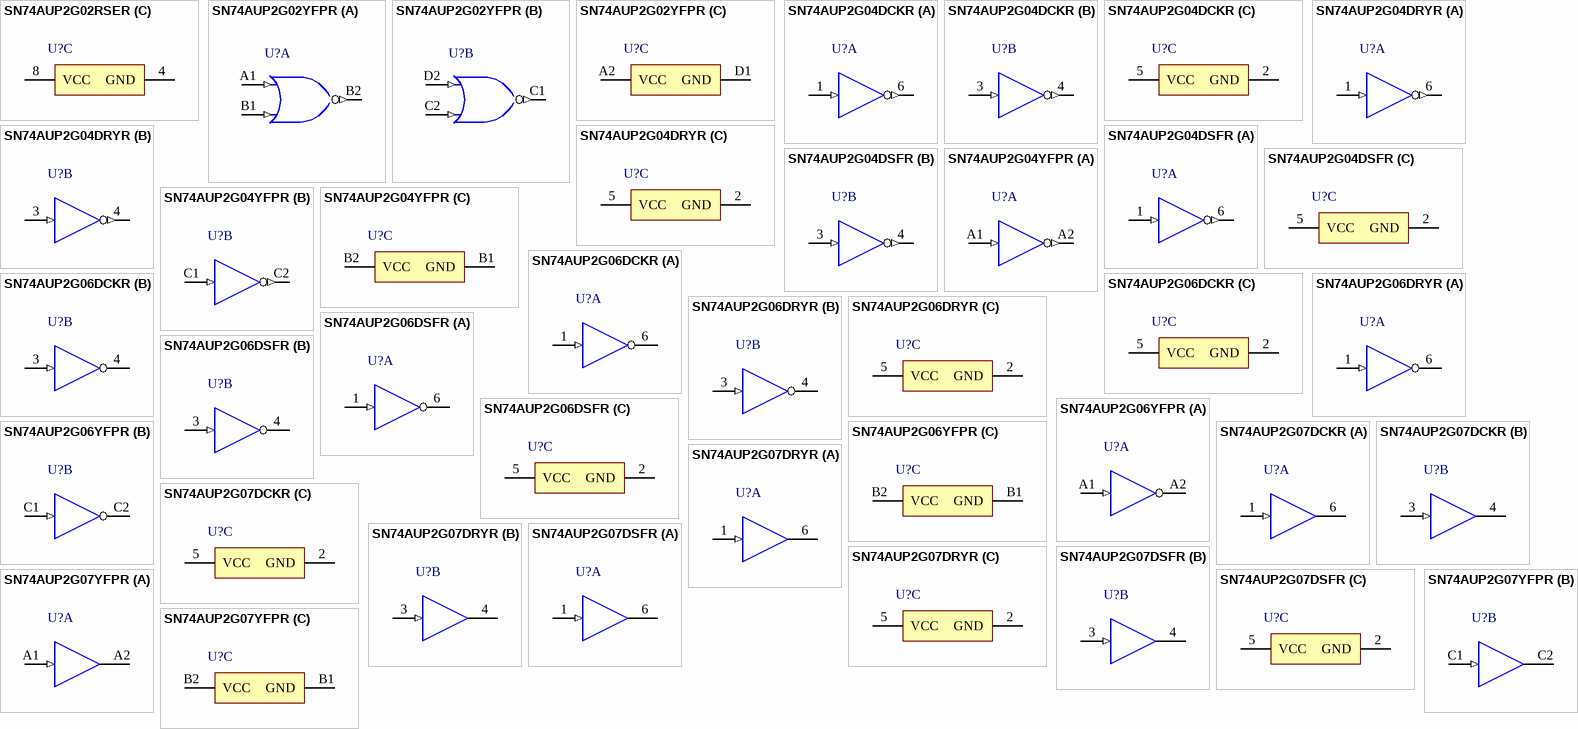
[diagram p24: symbols SN74AUP2G02RSER to SN74AUP2G07YFPR]

## SN74AUP2G02RSER
designator U?
Low-Power Dual 2-Input Positive-NOR Gate, RSE0008A, LARGE T&R; Generic Part Number: SN74AUP2G02; Manufacturer: Texas Instruments; PartNumber: SN74AUP2G02RSER; VCC(Min)(V): 0.8; VCC(Max)(V): 3.6; Output Type: CMOS; ICC @ Nom Voltage(Max)(mA): 0.0009; Bits(#): 2; F @ Nom Voltage(Max)(Mhz): 100; Rating: Catalog; Technology Family: AUP; Voltage(Nom)(V): 0.8,1.2,1.5,1.8,2.5,3.3; Schmitt Trigger: No; Output Drive (IOL/IOH)(Max)(mA): 20/-20; tpd @ Nom Voltage(Max)(ns): 32.8,20.9,14.2,11,7.6,6.2; Logic: True; Gate Type: NOR; DatasheetVersion: SCES753C; PackageReference: RSE0008A; Supplier 1: Mouser; Supplier Part Number 1: 595-SN74AUP2G02RSER; Supplier 2: Digi-Key; Supplier Part Number 2: 296-27285-2-ND; Supplier 3: Digi-Key; Supplier Part Number 3: 296-27285-1-ND; Supplier 4: Digi-Key; Supplier Part Number 4: 296-27285-6-ND; Input Type: CMOS; Operating Temperature Range(C): -40 to 85; Sub-Family: NOR Gate; 3-State Output: No; ComponentLink1Description: Manufacturer URL; ComponentLink1URL: http://www.ti.com/; ComponentLink2Description: Datasheet; ComponentLink2URL: http://www.ti.com/lit/ds/symlink/sn74aup2g02.pdf
footprint RSE0008A_V (QFN, 8-Leads, Body 1.5x1.5mm, Pitch 0.5mm, TI Recommend)
part A pins: 1 1Y (out), 6 1B (in), 7 1A (in)
part B pins: 2 2B (in), 3 2A (in), 5 2Y (out)
part C pins: 4 GND (power), 8 VCC (power)

## SN74AUP2G02YFPR
designator U?
Low-Power Dual 2-Input Positive-NOR Gate, YZP0008AAAA, LARGE T&R; Generic Part Number: SN74AUP2G02; Manufacturer: Texas Instruments; PartNumber: SN74AUP2G02YFPR; VCC(Min)(V): 0.8; VCC(Max)(V): 3.6; Output Type: CMOS; ICC @ Nom Voltage(Max)(mA): 0.0009; Bits(#): 2; F @ Nom Voltage(Max)(Mhz): 100; Rating: Catalog; Technology Family: AUP; Voltage(Nom)(V): 0.8,1.2,1.5,1.8,2.5,3.3; Schmitt Trigger: No; Output Drive (IOL/IOH)(Max)(mA): 20/-20; tpd @ Nom Voltage(Max)(ns): 32.8,20.9,14.2,11,7.6,6.2; Logic: True; Gate Type: NOR; DatasheetVersion: SCES753C; PackageReference: YZP0008AAAA; Supplier 1: Mouser; Supplier Part Number 1: 595-SN74AUP2G02YFPR; Supplier 2: Digi-Key; Supplier Part Number 2: 296-25203-2-ND; Supplier 3: Digi-Key; Supplier Part Number 3: 296-25203-1-ND; Supplier 4: Digi-Key; Supplier Part Number 4: 296-25203-6-ND; Input Type: CMOS; Operating Temperature Range(C): -40 to 85; Sub-Family: NOR Gate; 3-State Output: No; ComponentLink1Description: Manufacturer URL; ComponentLink1URL: http://www.ti.com/; ComponentLink2Description: Datasheet; ComponentLink2URL: http://www.ti.com/lit/ds/symlink/sn74aup2g02.pdf
footprint YZP0008AAAA (BGA, 8-Balls, Body 1.56x0.76mm, Pitch 0.4mm)
part A pins: A1 1A (in), B1 1B (in), B2 1Y (out)
part B pins: C1 2Y (out), C2 2B (in), D2 2A (in)
part C pins: A2 VCC (power), D1 GND (power)

## SN74AUP2G04DCKR
designator U?
Low-Power Dual Inverter Gate, DCK0006A, LARGE T&R; Generic Part Number: SN74AUP2G04; Manufacturer: Texas Instruments; PartNumber: SN74AUP2G04DCKR; VCC(Min)(V): 0.8; VCC(Max)(V): 3.6; Output Type: CMOS; ICC @ Nom Voltage(Max)(mA): 0.0009; Bits(#): 2; F @ Nom Voltage(Max)(Mhz): 100; Rating: Catalog; Technology Family: AUP; Voltage(Nom)(V): 0.8,1.2,1.5,1.8,2.5,3.3; Schmitt Trigger: No; Output Drive (IOL/IOH)(Max)(mA): 20/-20; tpd @ Nom Voltage(Max)(ns): 32.8,20.9,14.2,11,7.6,6.2; Logic: Inverting; Sub-Family: Inverting Buffer/Driver; DatasheetVersion: SCES747B; PackageReference: DCK0006A; Supplier 1: Mouser; Supplier Part Number 1: 595-SN74AUP2G04DCKR; Supplier 2: Digi-Key; Supplier Part Number 2: 296-27353-2-ND; Supplier 3: Digi-Key; Supplier Part Number 3: 296-27353-1-ND; Supplier 4: Digi-Key; Supplier Part Number 4: 296-27353-6-ND; Input Type: CMOS; Operating Temperature Range(C): -40 to 85; 3-State Output: No; ComponentLink1Description: Manufacturer URL; ComponentLink1URL: http://www.ti.com/; ComponentLink2Description: Datasheet; ComponentLink2URL: http://www.ti.com/lit/ds/symlink/sn74aup2g04.pdf
footprint DCK0006A_N (SOT23, 6-Leads, Body 2.15x1.4mm, Pitch 0.65mm, IPC Medium Density)
footprint DCK0006A_M (SOT23, 6-Leads, Body 2.15x1.4mm, Pitch 0.65mm, IPC Low Density)
footprint DCK0006A_L (SOT23, 6-Leads, Body 2.15x1.4mm, Pitch 0.65mm, IPC High Density)
part A pins: 1 1A (in), 6 1Y (out)
part B pins: 3 2A (in), 4 2Y (out)
part C pins: 2 GND (power), 5 VCC (power)

## SN74AUP2G04DRYR
designator U?
Low-Power Dual Inverter Gate, DRY0006A, LARGE T&R; Generic Part Number: SN74AUP2G04; Manufacturer: Texas Instruments; PartNumber: SN74AUP2G04DRYR; VCC(Min)(V): 0.8; VCC(Max)(V): 3.6; Output Type: CMOS; ICC @ Nom Voltage(Max)(mA): 0.0009; Bits(#): 2; F @ Nom Voltage(Max)(Mhz): 100; Rating: Catalog; Technology Family: AUP; Voltage(Nom)(V): 0.8,1.2,1.5,1.8,2.5,3.3; Schmitt Trigger: No; Output Drive (IOL/IOH)(Max)(mA): 20/-20; tpd @ Nom Voltage(Max)(ns): 32.8,20.9,14.2,11,7.6,6.2; Logic: Inverting; Sub-Family: Inverting Buffer/Driver; DatasheetVersion: SCES747B; PackageReference: DRY0006A; Supplier 1: Mouser; Supplier Part Number 1: 595-SN74AUP2G04DRYR; Supplier 2: Digi-Key; Supplier Part Number 2: 296-27311-2-ND; Supplier 3: Digi-Key; Supplier Part Number 3: 296-27311-1-ND; Supplier 4: Digi-Key; Supplier Part Number 4: 296-27311-6-ND; Input Type: CMOS; Operating Temperature Range(C): -40 to 85; 3-State Output: No; ComponentLink1Description: Manufacturer URL; ComponentLink1URL: http://www.ti.com/; ComponentLink2Description: Datasheet; ComponentLink2URL: http://www.ti.com/lit/ds/symlink/sn74aup2g04.pdf
footprint DRY0006A_V (SON, 6-Leads, Body 1.45x1mm, Pitch 0.5mm)
part A pins: 1 1A (in), 6 1Y (out)
part B pins: 3 2A (in), 4 2Y (out)
part C pins: 2 GND (power), 5 VCC (power)

## SN74AUP2G04DSFR
designator U?
Low-Power Dual Inverter Gate, DSF0006A, LARGE T&R; Generic Part Number: SN74AUP2G04; Manufacturer: Texas Instruments; PartNumber: SN74AUP2G04DSFR; VCC(Min)(V): 0.8; VCC(Max)(V): 3.6; Output Type: CMOS; ICC @ Nom Voltage(Max)(mA): 0.0009; Bits(#): 2; F @ Nom Voltage(Max)(Mhz): 100; Rating: Catalog; Technology Family: AUP; Voltage(Nom)(V): 0.8,1.2,1.5,1.8,2.5,3.3; Schmitt Trigger: No; Output Drive (IOL/IOH)(Max)(mA): 20/-20; tpd @ Nom Voltage(Max)(ns): 32.8,20.9,14.2,11,7.6,6.2; Logic: Inverting; Sub-Family: Inverting Buffer/Driver; DatasheetVersion: SCES747B; PackageReference: DSF0006A; Supplier 1: Mouser; Supplier Part Number 1: 595-SN74AUP2G04DSFR; Supplier 2: Digi-Key; Supplier Part Number 2: 296-25619-2-ND; Supplier 3: Digi-Key; Supplier Part Number 3: 296-25619-1-ND; Supplier 4: Digi-Key; Supplier Part Number 4: 296-25619-6-ND; Input Type: CMOS; Operating Temperature Range(C): -40 to 85; 3-State Output: No; ComponentLink1Description: Manufacturer URL; ComponentLink1URL: http://www.ti.com/; ComponentLink2Description: Datasheet; ComponentLink2URL: http://www.ti.com/lit/ds/symlink/sn74aup2g04.pdf
footprint DSF0006A_V (SON, 6-Leads, Body 1x1mm, Pitch 0.35mm, TI Recommend)
part A pins: 1 1A (in), 6 1Y (out)
part B pins: 3 2A (in), 4 2Y (out)
part C pins: 2 GND (power), 5 VCC (power)

## SN74AUP2G04YFPR
designator U?
Low-Power Dual Inverter Gate, YZP0006AAAA, LARGE T&R; Generic Part Number: SN74AUP2G04; Manufacturer: Texas Instruments; PartNumber: SN74AUP2G04YFPR; VCC(Min)(V): 0.8; VCC(Max)(V): 3.6; Output Type: CMOS; ICC @ Nom Voltage(Max)(mA): 0.0009; Bits(#): 2; F @ Nom Voltage(Max)(Mhz): 100; Rating: Catalog; Technology Family: AUP; Voltage(Nom)(V): 0.8,1.2,1.5,1.8,2.5,3.3; Schmitt Trigger: No; Output Drive (IOL/IOH)(Max)(mA): 20/-20; tpd @ Nom Voltage(Max)(ns): 32.8,20.9,14.2,11,7.6,6.2; Logic: Inverting; Sub-Family: Inverting Buffer/Driver; DatasheetVersion: SCES747B; PackageReference: YZP0006AAAA; Supplier 1: Mouser; Supplier Part Number 1: 595-SN74AUP2G04YFPR; Supplier 2: Digi-Key; Supplier Part Number 2: 296-25204-2-ND; Supplier 3: Digi-Key; Supplier Part Number 3: 296-25204-1-ND; Supplier 4: Digi-Key; Supplier Part Number 4: 296-25204-6-ND; Input Type: CMOS; Operating Temperature Range(C): -40 to 85; 3-State Output: No; ComponentLink1Description: Manufacturer URL; ComponentLink1URL: http://www.ti.com/; ComponentLink2Description: Datasheet; ComponentLink2URL: http://www.ti.com/lit/ds/symlink/sn74aup2g04.pdf
footprint YZP0006AAAA (BGA, 6-Balls, Body 1.16x0.76mm, Pitch 0.4mm)
part A pins: A1 1A (in), A2 1Y (out)
part B pins: C1 2A (in), C2 2Y (out)
part C pins: B1 GND (power), B2 VCC (power)

## SN74AUP2G06DCKR
designator U?
Low-Power Dual Inverter Buffer/Driver With Open-Drain Outputs, DCK0006A, LARGE T&R; Generic Part Number: SN74AUP2G06; Manufacturer: Texas Instruments; PartNumber: SN74AUP2G06DCKR; VCC(Min)(V): 0.8; VCC(Max)(V): 3.6; Output Type: CMOS; ICC @ Nom Voltage(Max)(mA): 0.0009; Bits(#): 2; F @ Nom Voltage(Max)(Mhz): 100; Rating: Catalog; Technology Family: AUP; Voltage(Nom)(V): 0.8,1.2,1.5,1.8,2.5,3.3; Schmitt Trigger: No; Output Drive (IOL/IOH)(Max)(mA): 20/-20; tpd @ Nom Voltage(Max)(ns): 25.3,16,10.1,10.7,7.1,10.5; Logic: Inverting; Sub-Family: Inverting Buffer/Driver; DatasheetVersion: SCES776A; PackageReference: DCK0006A; Supplier 1: Mouser; Supplier Part Number 1: 595-SN74AUP2G06DCKR; Supplier 2: Digi-Key; Supplier Part Number 2: 296-27354-2-ND; Supplier 3: Digi-Key; Supplier Part Number 3: 296-27354-1-ND; Supplier 4: Digi-Key; Supplier Part Number 4: 296-27354-6-ND; Input Type: CMOS; Operating Temperature Range(C): -40 to 85; 3-State Output: No; ComponentLink1Description: Manufacturer URL; ComponentLink1URL: http://www.ti.com/; ComponentLink2Description: Datasheet; ComponentLink2URL: http://www.ti.com/lit/ds/symlink/sn74aup2g06.pdf
footprint DCK0006A_N (SOT23, 6-Leads, Body 2.15x1.4mm, Pitch 0.65mm, IPC Medium Density)
footprint DCK0006A_M (SOT23, 6-Leads, Body 2.15x1.4mm, Pitch 0.65mm, IPC Low Density)
footprint DCK0006A_L (SOT23, 6-Leads, Body 2.15x1.4mm, Pitch 0.65mm, IPC High Density)
part A pins: 1 1A (in), 6 1Y (oc)
part B pins: 3 2A (in), 4 2Y (oc)
part C pins: 2 GND (power), 5 VCC (power)

## SN74AUP2G06DRYR
designator U?
Low-Power Dual Inverter Buffer/Driver With Open-Drain Outputs, DRY0006A, LARGE T&R; Generic Part Number: SN74AUP2G06; Manufacturer: Texas Instruments; PartNumber: SN74AUP2G06DRYR; VCC(Min)(V): 0.8; VCC(Max)(V): 3.6; Output Type: CMOS; ICC @ Nom Voltage(Max)(mA): 0.0009; Bits(#): 2; F @ Nom Voltage(Max)(Mhz): 100; Rating: Catalog; Technology Family: AUP; Voltage(Nom)(V): 0.8,1.2,1.5,1.8,2.5,3.3; Schmitt Trigger: No; Output Drive (IOL/IOH)(Max)(mA): 20/-20; tpd @ Nom Voltage(Max)(ns): 25.3,16,10.1,10.7,7.1,10.5; Logic: Inverting; Sub-Family: Inverting Buffer/Driver; DatasheetVersion: SCES776A; PackageReference: DRY0006A; Supplier 1: Mouser; Supplier Part Number 1: 595-SN74AUP2G06DRYR; Supplier 2: Digi-Key; Supplier Part Number 2: 296-27355-2-ND; Supplier 3: Digi-Key; Supplier Part Number 3: 296-27355-1-ND; Supplier 4: Digi-Key; Supplier Part Number 4: 296-27355-6-ND; Input Type: CMOS; Operating Temperature Range(C): -40 to 85; 3-State Output: No; ComponentLink1Description: Manufacturer URL; ComponentLink1URL: http://www.ti.com/; ComponentLink2Description: Datasheet; ComponentLink2URL: http://www.ti.com/lit/ds/symlink/sn74aup2g06.pdf
footprint DRY0006A_V (SON, 6-Leads, Body 1.45x1mm, Pitch 0.5mm)
part A pins: 1 1A (in), 6 1Y (oc)
part B pins: 3 2A (in), 4 2Y (oc)
part C pins: 2 GND (power), 5 VCC (power)

## SN74AUP2G06DSFR
designator U?
Low-Power Dual Inverter Buffer/Driver With Open-Drain Outputs, DSF0006A, LARGE T&R; Generic Part Number: SN74AUP2G06; Manufacturer: Texas Instruments; PartNumber: SN74AUP2G06DSFR; VCC(Min)(V): 0.8; VCC(Max)(V): 3.6; Output Type: CMOS; ICC @ Nom Voltage(Max)(mA): 0.0009; Bits(#): 2; F @ Nom Voltage(Max)(Mhz): 100; Rating: Catalog; Technology Family: AUP; Voltage(Nom)(V): 0.8,1.2,1.5,1.8,2.5,3.3; Schmitt Trigger: No; Output Drive (IOL/IOH)(Max)(mA): 20/-20; tpd @ Nom Voltage(Max)(ns): 25.3,16,10.1,10.7,7.1,10.5; Logic: Inverting; Sub-Family: Inverting Buffer/Driver; DatasheetVersion: SCES776A; PackageReference: DSF0006A; Supplier 1: Mouser; Supplier Part Number 1: 595-SN74AUP2G06DSFR; Supplier 2: Digi-Key; Supplier Part Number 2: 296-27356-2-ND; Supplier 3: Digi-Key; Supplier Part Number 3: 296-27356-1-ND; Supplier 4: Digi-Key; Supplier Part Number 4: 296-27356-6-ND; Input Type: CMOS; Operating Temperature Range(C): -40 to 85; 3-State Output: No; ComponentLink1Description: Manufacturer URL; ComponentLink1URL: http://www.ti.com/; ComponentLink2Description: Datasheet; ComponentLink2URL: http://www.ti.com/lit/ds/symlink/sn74aup2g06.pdf
footprint DSF0006A_V (SON, 6-Leads, Body 1x1mm, Pitch 0.35mm, TI Recommend)
part A pins: 1 1A (in), 6 1Y (oc)
part B pins: 3 2A (in), 4 2Y (oc)
part C pins: 2 GND (power), 5 VCC (power)

## SN74AUP2G06YFPR
designator U?
Low-Power Dual Inverter Buffer/Driver With Open-Drain Outputs, YZP0006AAAA, LARGE T&R; Generic Part Number: SN74AUP2G06; Manufacturer: Texas Instruments; PartNumber: SN74AUP2G06YFPR; VCC(Min)(V): 0.8; VCC(Max)(V): 3.6; Output Type: CMOS; ICC @ Nom Voltage(Max)(mA): 0.0009; Bits(#): 2; F @ Nom Voltage(Max)(Mhz): 100; Rating: Catalog; Technology Family: AUP; Voltage(Nom)(V): 0.8,1.2,1.5,1.8,2.5,3.3; Schmitt Trigger: No; Output Drive (IOL/IOH)(Max)(mA): 20/-20; tpd @ Nom Voltage(Max)(ns): 25.3,16,10.1,10.7,7.1,10.5; Logic: Inverting; Sub-Family: Inverting Buffer/Driver; DatasheetVersion: SCES776A; PackageReference: YZP0006AAAA; Supplier 1: Mouser; Supplier Part Number 1: 595-SN74AUP2G06YFPR; Supplier 2: Digi-Key; Supplier Part Number 2: 296-25205-2-ND; Supplier 3: Digi-Key; Supplier Part Number 3: 296-25205-1-ND; Supplier 4: Digi-Key; Supplier Part Number 4: 296-25205-6-ND; Input Type: CMOS; Operating Temperature Range(C): -40 to 85; 3-State Output: No; ComponentLink1Description: Manufacturer URL; ComponentLink1URL: http://www.ti.com/; ComponentLink2Description: Datasheet; ComponentLink2URL: http://www.ti.com/lit/ds/symlink/sn74aup2g06.pdf
footprint YZP0006AAAA (BGA, 6-Balls, Body 1.16x0.76mm, Pitch 0.4mm)
part A pins: A1 1A (in), A2 1Y (oc)
part B pins: C1 2A (in), C2 2Y (oc)
part C pins: B1 GND (power), B2 VCC (power)

## SN74AUP2G07DCKR
designator U?
Low-Power Dual Buffer/Driver With Open-Drain Outputs, DCK0006A, LARGE T&R; Generic Part Number: SN74AUP2G07; Manufacturer: Texas Instruments; PartNumber: SN74AUP2G07DCKR; VCC(Min)(V): 0.8; VCC(Max)(V): 3.6; Output Type: CMOS; ICC @ Nom Voltage(Max)(mA): 0.0009; Bits(#): 2; F @ Nom Voltage(Max)(Mhz): 100; Rating: Catalog; Technology Family: AUP; Voltage(Nom)(V): 0.8,1.2,1.5,1.8,2.5,3.3; Schmitt Trigger: No; Output Drive (IOL/IOH)(Max)(mA): 20/-20; tpd @ Nom Voltage(Max)(ns): 26.5,14.4,9.4,9.7,6.7,9.7; Logic: True; Sub-Family: Non-Inverting Buffer/Driver; DatasheetVersion: SCES748C; PackageReference: DCK0006A; Supplier 1: Mouser; Supplier Part Number 1: 595-SN74AUP2G07DCKR; Supplier 2: Digi-Key; Supplier Part Number 2: 296-27357-2-ND; Supplier 3: Digi-Key; Supplier Part Number 3: 296-27357-1-ND; Supplier 4: Digi-Key; Supplier Part Number 4: 296-27357-6-ND; Input Type: CMOS; Operating Temperature Range(C): -40 to 85; 3-State Output: No; ComponentLink1Description: Manufacturer URL; ComponentLink1URL: http://www.ti.com/; ComponentLink2Description: Datasheet; ComponentLink2URL: http://www.ti.com/lit/ds/symlink/sn74aup2g07.pdf
footprint DCK0006A_N (SOT23, 6-Leads, Body 2.15x1.4mm, Pitch 0.65mm, IPC Medium Density)
footprint DCK0006A_M (SOT23, 6-Leads, Body 2.15x1.4mm, Pitch 0.65mm, IPC Low Density)
footprint DCK0006A_L (SOT23, 6-Leads, Body 2.15x1.4mm, Pitch 0.65mm, IPC High Density)
part A pins: 1 1A (in) "Input 1", 6 1Y (oc) "Open-drain output 1"
part B pins: 3 2A (in) "Input 2", 4 2Y (oc) "Open-drain output 2"
part C pins: 2 GND (power) "Ground", 5 VCC (power) "Power pin"

## SN74AUP2G07DRYR
designator U?
Low-Power Dual Buffer/Driver With Open-Drain Outputs, DRY0006A, LARGE T&R; Generic Part Number: SN74AUP2G07; Manufacturer: Texas Instruments; PartNumber: SN74AUP2G07DRYR; VCC(Min)(V): 0.8; VCC(Max)(V): 3.6; Output Type: CMOS; ICC @ Nom Voltage(Max)(mA): 0.0009; Bits(#): 2; F @ Nom Voltage(Max)(Mhz): 100; Rating: Catalog; Technology Family: AUP; Voltage(Nom)(V): 0.8,1.2,1.5,1.8,2.5,3.3; Schmitt Trigger: No; Output Drive (IOL/IOH)(Max)(mA): 20/-20; tpd @ Nom Voltage(Max)(ns): 26.5,14.4,9.4,9.7,6.7,9.7; Logic: True; Sub-Family: Non-Inverting Buffer/Driver; DatasheetVersion: SCES748C; PackageReference: DRY0006A; Supplier 1: Mouser; Supplier Part Number 1: 595-SN74AUP2G07DRYR; Supplier 2: Digi-Key; Supplier Part Number 2: 296-27399-2-ND; Supplier 3: Digi-Key; Supplier Part Number 3: 296-27399-1-ND; Supplier 4: Digi-Key; Supplier Part Number 4: 296-27399-6-ND; Input Type: CMOS; Operating Temperature Range(C): -40 to 85; 3-State Output: No; ComponentLink1Description: Manufacturer URL; ComponentLink1URL: http://www.ti.com/; ComponentLink2Description: Datasheet; ComponentLink2URL: http://www.ti.com/lit/ds/symlink/sn74aup2g07.pdf
footprint DRY0006A_V (SON, 6-Leads, Body 1.45x1mm, Pitch 0.5mm)
part A pins: 1 1A (in) "Input 1", 6 1Y (oc) "Open-drain output 1"
part B pins: 3 2A (in) "Input 2", 4 2Y (oc) "Open-drain output 2"
part C pins: 2 GND (power) "Ground", 5 VCC (power) "Power pin"

## SN74AUP2G07DSFR
designator U?
Low-Power Dual Buffer/Driver With Open-Drain Outputs, DSF0006A, LARGE T&R; Generic Part Number: SN74AUP2G07; Manufacturer: Texas Instruments; PartNumber: SN74AUP2G07DSFR; VCC(Min)(V): 0.8; VCC(Max)(V): 3.6; Output Type: CMOS; ICC @ Nom Voltage(Max)(mA): 0.0009; Bits(#): 2; F @ Nom Voltage(Max)(Mhz): 100; Rating: Catalog; Technology Family: AUP; Voltage(Nom)(V): 0.8,1.2,1.5,1.8,2.5,3.3; Schmitt Trigger: No; Output Drive (IOL/IOH)(Max)(mA): 20/-20; tpd @ Nom Voltage(Max)(ns): 26.5,14.4,9.4,9.7,6.7,9.7; Logic: True; Sub-Family: Non-Inverting Buffer/Driver; DatasheetVersion: SCES748C; PackageReference: DSF0006A; Supplier 1: Mouser; Supplier Part Number 1: 595-SN74AUP2G07DSFR; Supplier 2: Digi-Key; Supplier Part Number 2: 296-27358-2-ND; Supplier 3: Digi-Key; Supplier Part Number 3: 296-27358-1-ND; Supplier 4: Digi-Key; Supplier Part Number 4: 296-27358-6-ND; Input Type: CMOS; Operating Temperature Range(C): -40 to 85; 3-State Output: No; ComponentLink1Description: Manufacturer URL; ComponentLink1URL: http://www.ti.com/; ComponentLink2Description: Datasheet; ComponentLink2URL: http://www.ti.com/lit/ds/symlink/sn74aup2g07.pdf
footprint DSF0006A_V (SON, 6-Leads, Body 1x1mm, Pitch 0.35mm, TI Recommend)
part A pins: 1 1A (in) "Input 1", 6 1Y (oc) "Open-drain output 1"
part B pins: 3 2A (in) "Input 2", 4 2Y (oc) "Open-drain output 2"
part C pins: 2 GND (power) "Ground", 5 VCC (power) "Power pin"